# EAGLE library part PROGRAMMER_P_AVR (library AdapterDIP8M16)
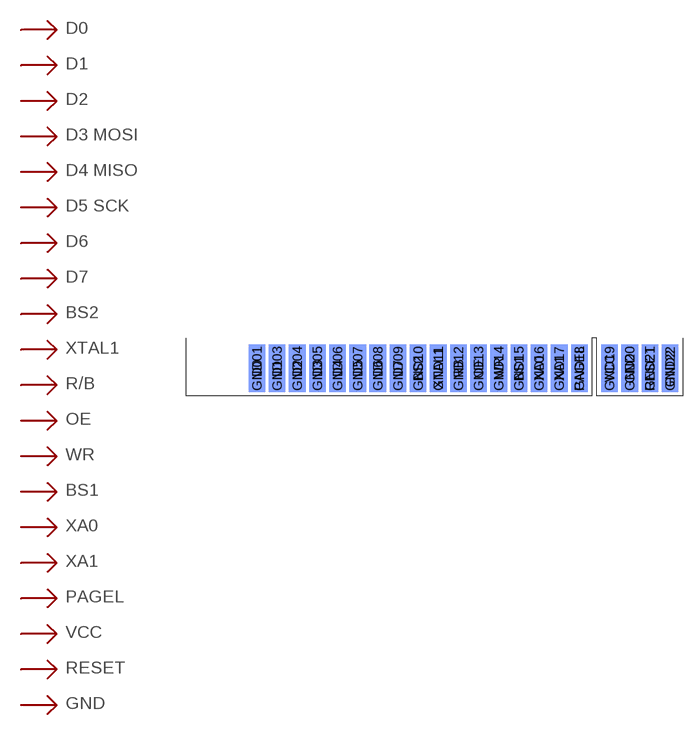
[diagram p7: symbol with the pads of PROGRAMMER_P_AVR; footprint PROGRAMMER_P_AVR]

Designator prefix -

## PROGRAMMER_P_AVR  [PROGRAMMER_P_AVR]
BS1  BS1
BS2  BS2
D0  D0
D1  D1
D2  D2
D3  D3
D4  D4
D5  D5
D6  D6
D7  D7
GND  GND
GND01  GND
GND2  GND
GND03  GND
GND04  GND
GND05  GND
GND06  GND
GND07  GND
GND08  GND
GND09  GND
GND10  GND
GND11  GND
GND12  GND
GND13  GND
GND14  GND
GND15  GND
GND16  GND
GND17  GND
GND18  GND
GND19  GND
GND20  GND
GND21  GND
GND22  GND
OE  OE
PAGEL  PAGEL
RB  RB
RESET  RESET
VCC  VCC
WR  WR
XA0  XA0
XA1  XA1
XTAL1  XTAL1

## Footprint PROGRAMMER_P_AVR (pad centres in mm)
smd 2.1 x 6: BS1 37.782,-0.318; BS2 25.082,-0.318; D0 4.763,-0.318; D1 7.303,-0.318; D2 9.842,-0.318; D3 12.383,-0.318; D4 14.922,-0.318; D5 17.462,-0.318; D6 20.003,-0.318; D7 22.543,-0.318; GND 51.752,-0.318; GND2 56.833,-0.318; OE 32.703,-0.318; PAGEL 45.403,-0.318; RB 30.163,-0.318; RESET 54.292,-0.318; VCC 49.212,-0.318; WR 35.242,-0.318; XA0 40.322,-0.318; XA1 42.862,-0.318; XTAL1 27.622,-0.318
smd 2.1 x 6 bottom: GND01 4.763,-0.318; GND03 7.303,-0.318; GND04 9.842,-0.318; GND05 12.383,-0.318; GND06 14.922,-0.318; GND07 17.462,-0.318; GND08 20.003,-0.318; GND09 22.543,-0.318; GND10 25.082,-0.318; GND11 27.622,-0.318; GND12 30.163,-0.318; GND13 32.703,-0.318; GND14 35.242,-0.318; GND15 37.782,-0.318; GND16 40.322,-0.318; GND17 42.862,-0.318; GND18 45.403,-0.318; GND19 49.212,-0.318; GND20 51.752,-0.318; GND21 54.292,-0.318; GND22 56.833,-0.318